# EAGLE library part A24001-012 (library con-omnetics)
CONNECTOR wire to board 1.27 mm (0.05") pitch header
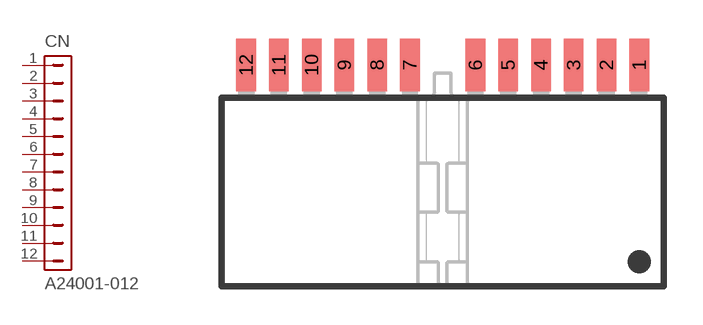
[diagram p2: symbol with the pads of A24001-012; footprint A24001-012]

Designator prefix CN

## A24001-012  [A24001-012]
1  1  pas
2  2  pas
3  3  pas
4  4  pas
5  5  pas
6  6  pas
7  7  pas
8  8  pas
9  9  pas
10  10  pas
11  11  pas
12  12  pas

## Footprint A24001-012 (pad centres in mm)
Connector SMD right angle, 12 pin
smd 0.762 x 2.032: 1 7.62,5.08; 2 6.35,5.08; 3 5.08,5.08; 4 3.81,5.08; 5 2.54,5.08; 6 1.27,5.08; 7 -1.27,5.08; 8 -2.54,5.08; 9 -3.81,5.08; 10 -5.08,5.08; 11 -6.35,5.08; 12 -7.62,5.08